# EAGLE library part CONN_RJ45_X8_LED_SH (library GPLIB_CONN)
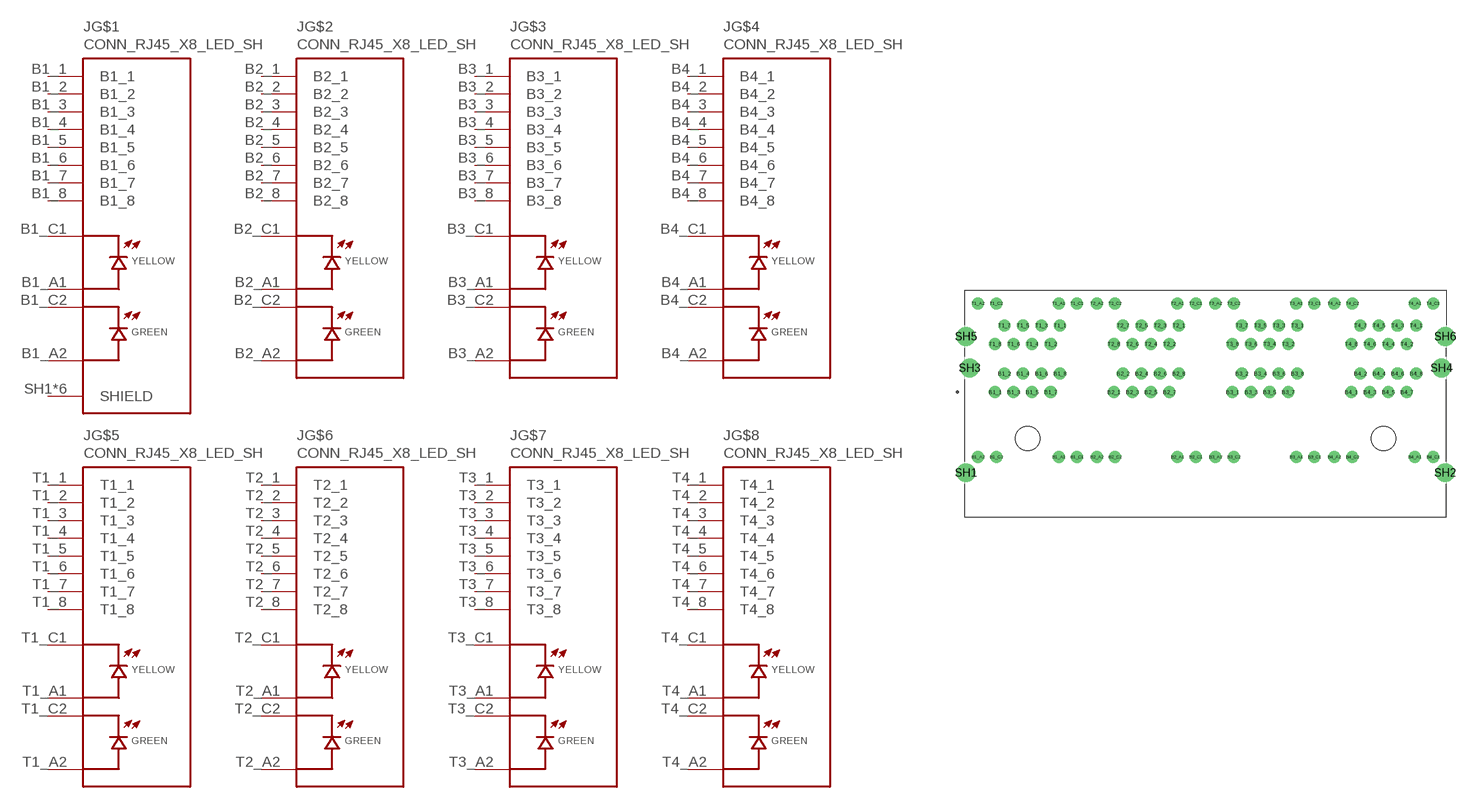
[diagram p6: symbol with the pads of CONN_RJ45_X8_TE_6339082-3; footprint CONN_RJ45_X8_TE_6339082-3]

Designator prefix J; gates G$1=CONN_ETH_8PORT_BOTTOM_PORT1 G$2=CONN_ETH_8PORT_BOTTOM_PORT2 G$3=CONN_ETH_8PORT_BOTTOM_PORT3 G$4=CONN_ETH_8PORT_BOTTOM_PORT4 G$5=CONN_ETH_8PORT_TOP_PORT1 G$6=CONN_ETH_8PORT_TOP_PORT2 G$7=CONN_ETH_8PORT_TOP_PORT3 G$8=CONN_ETH_8PORT_TOP_PORT4

## CONN_RJ45_X8_LED_SH  [CONN_RJ45_X8_TE_6339082-3]
B1_1  G$1:B1_1  pas
B1_2  G$1:B1_2  pas
B1_3  G$1:B1_3  pas
B1_4  G$1:B1_4  pas
B1_5  G$1:B1_5  pas
B1_6  G$1:B1_6  pas
B1_7  G$1:B1_7  pas
B1_8  G$1:B1_8  pas
B1_A1  G$1:B1_A1  pas
B1_A2  G$1:B1_A2  pas
B1_C1  G$1:B1_C1  pas
B1_C2  G$1:B1_C2  pas
B2_1  G$2:B2_1  pas
B2_2  G$2:B2_2  pas
B2_3  G$2:B2_3  pas
B2_4  G$2:B2_4  pas
B2_5  G$2:B2_5  pas
B2_6  G$2:B2_6  pas
B2_7  G$2:B2_7  pas
B2_8  G$2:B2_8  pas
B2_A1  G$2:B2_A1  pas
B2_A2  G$2:B2_A2  pas
B2_C1  G$2:B2_C1  pas
B2_C2  G$2:B2_C2  pas
B3_1  G$3:B3_1  pas
B3_2  G$3:B3_2  pas
B3_3  G$3:B3_3  pas
B3_4  G$3:B3_4  pas
B3_5  G$3:B3_5  pas
B3_6  G$3:B3_6  pas
B3_7  G$3:B3_7  pas
B3_8  G$3:B3_8  pas
B3_A1  G$3:B3_A1  pas
B3_A2  G$3:B3_A2  pas
B3_C1  G$3:B3_C1  pas
B3_C2  G$3:B3_C2  pas
B4_1  G$4:B4_1  pas
B4_2  G$4:B4_2  pas
B4_3  G$4:B4_3  pas
B4_4  G$4:B4_4  pas
B4_5  G$4:B4_5  pas
B4_6  G$4:B4_6  pas
B4_7  G$4:B4_7  pas
B4_8  G$4:B4_8  pas
B4_A1  G$4:B4_A1  pas
B4_A2  G$4:B4_A2  pas
B4_C1  G$4:B4_C1  pas
B4_C2  G$4:B4_C2  pas
SH1  G$1:SHIELD  pas
SH2  G$1:SHIELD  pas
SH3  G$1:SHIELD  pas
SH4  G$1:SHIELD  pas
SH5  G$1:SHIELD  pas
SH6  G$1:SHIELD  pas
T1_1  G$5:T1_1  pas
T1_2  G$5:T1_2  pas
T1_3  G$5:T1_3  pas
T1_4  G$5:T1_4  pas
T1_5  G$5:T1_5  pas
T1_6  G$5:T1_6  pas
T1_7  G$5:T1_7  pas
T1_8  G$5:T1_8  pas
T1_A1  G$5:T1_A1  pas
T1_A2  G$5:T1_A2  pas
T1_C1  G$5:T1_C1  pas
T1_C2  G$5:T1_C2  pas
T2_1  G$6:T2_1  pas
T2_2  G$6:T2_2  pas
T2_3  G$6:T2_3  pas
T2_4  G$6:T2_4  pas
T2_5  G$6:T2_5  pas
T2_6  G$6:T2_6  pas
T2_7  G$6:T2_7  pas
T2_8  G$6:T2_8  pas
T2_A1  G$6:T2_A1  pas
T2_A2  G$6:T2_A2  pas
T2_C1  G$6:T2_C1  pas
T2_C2  G$6:T2_C2  pas
T3_1  G$7:T3_1  pas
T3_2  G$7:T3_2  pas
T3_3  G$7:T3_3  pas
T3_4  G$7:T3_4  pas
T3_5  G$7:T3_5  pas
T3_6  G$7:T3_6  pas
T3_7  G$7:T3_7  pas
T3_8  G$7:T3_8  pas
T3_A1  G$7:T3_A1  pas
T3_A2  G$7:T3_A2  pas
T3_C1  G$7:T3_C1  pas
T3_C2  G$7:T3_C2  pas
T4_1  G$8:T4_1  pas
T4_2  G$8:T4_2  pas
T4_3  G$8:T4_3  pas
T4_4  G$8:T4_4  pas
T4_5  G$8:T4_5  pas
T4_6  G$8:T4_6  pas
T4_7  G$8:T4_7  pas
T4_8  G$8:T4_8  pas
T4_A1  G$8:T4_A1  pas
T4_A2  G$8:T4_A2  pas
T4_C1  G$8:T4_C1  pas
T4_C2  G$8:T4_C2  pas

## Footprint CONN_RJ45_X8_TE_6339082-3 (pad centres in mm)
drill 1.1 pad 1.6: B1_1 -28.84,-0.555; B1_2 -27.57,1.985; B1_3 -26.3,-0.555; B1_4 -25.03,1.985; B1_5 -23.76,-0.555; B1_6 -22.49,1.985; B1_7 -21.22,-0.555; B1_8 -19.95,1.985; B1_A1 -20.115,-9.445; B1_A2 -31.165,-9.445; B1_C1 -17.615,-9.445; B1_C2 -28.665,-9.445; B2_1 -12.58,-0.555; B2_2 -11.31,1.985; B2_3 -10.04,-0.555; B2_4 -8.77,1.985; B2_5 -7.5,-0.555; B2_6 -6.23,1.985; B2_7 -4.96,-0.555; B2_8 -3.69,1.985; B2_A1 -3.855,-9.445; B2_A2 -14.905,-9.445; B2_C1 -1.355,-9.445; B2_C2 -12.405,-9.445; B3_1 3.68,-0.555; B3_2 4.95,1.985; B3_3 6.22,-0.555; B3_4 7.49,1.985; B3_5 8.76,-0.555; B3_6 10.03,1.985; B3_7 11.3,-0.555; B3_8 12.57,1.985; B3_A1 12.405,-9.445; B3_A2 1.355,-9.445; B3_C1 14.905,-9.445; B3_C2 3.855,-9.445; B4_1 19.94,-0.555; B4_2 21.21,1.985; B4_3 22.48,-0.555; B4_4 23.75,1.985; B4_5 25.02,-0.555; B4_6 26.29,1.985; B4_7 27.56,-0.555; B4_8 28.83,1.985; B4_A1 28.665,-9.445; B4_A2 17.615,-9.445; B4_C1 31.165,-9.445; B4_C2 20.115,-9.445; T1_1 -19.95,8.585; T1_2 -21.22,6.045; T1_3 -22.49,8.585; T1_4 -23.76,6.045; T1_5 -25.03,8.585; T1_6 -26.3,6.045; T1_7 -27.57,8.585; T1_8 -28.84,6.045; T1_A1 -20.115,11.605; T1_A2 -31.165,11.605; T1_C1 -17.615,11.605; T1_C2 -28.665,11.605; T2_1 -3.69,8.585; T2_2 -4.96,6.045; T2_3 -6.23,8.585; T2_4 -7.5,6.045; T2_5 -8.77,8.585; T2_6 -10.04,6.045; T2_7 -11.31,8.585; T2_8 -12.58,6.045; T2_A1 -3.855,11.605; T2_A2 -14.905,11.605; T2_C1 -1.355,11.605; T2_C2 -12.405,11.605; T3_1 12.57,8.585; T3_2 11.3,6.045; T3_3 10.03,8.585; T3_4 8.76,6.045; T3_5 7.49,8.585; T3_6 6.22,6.045; T3_7 4.95,8.585; T3_8 3.68,6.045; T3_A1 12.405,11.605; T3_A2 1.355,11.605; T3_C1 14.905,11.605; T3_C2 3.855,11.605; T4_1 28.83,8.585; T4_2 27.56,6.045; T4_3 26.29,8.585; T4_4 25.02,6.045; T4_5 23.75,8.585; T4_6 22.48,6.045; T4_7 21.21,8.585; T4_8 19.94,6.045; T4_A1 28.665,11.605; T4_A2 17.615,11.605; T4_C1 31.165,11.605; T4_C2 20.115,11.605
drill 1.7 pad 2.3: SH1 -32.825,-11.603; SH2 32.825,-11.603; SH3 -32.305,2.745; SH4 32.305,2.745; SH5 -32.825,7.066; SH6 32.825,7.066
hole 3.33 at -24.39,-6.905
hole 3.33 at 24.39,-6.905